# EAGLE library part RPI-CSI (library CM_connectors)
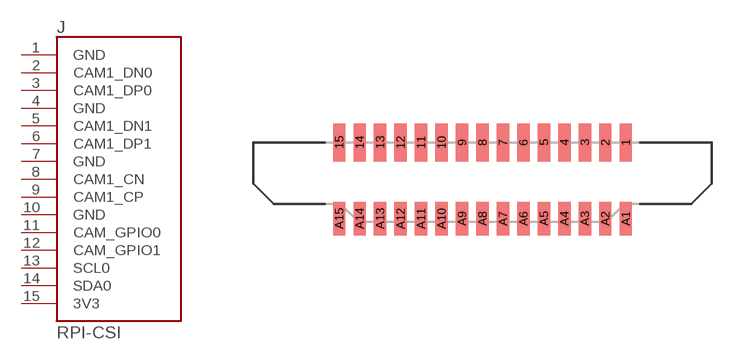
[diagram p1: symbol with the pads of 1-1734248-5; footprint 1-1734248-5]

Designator prefix J

## RPI-CSI  [1-1734248-5]
1  GND1
2  CAM1_DN0
3  CAM1_DP0
4  GND2
5  CAM1_DN1
6  CAM1_DP1
7  GND3
8  CAM1_CN
9  CAM1_CP
10  GND4
11  CAM_GPIO0
12  CAM_GPIO1
13  SCL0
14  SDA0
15  3V3

## Footprint 1-1734248-5 (pad centres in mm)
smd 0.6 x 1.85: 1 7,0; 2 6,0; 3 5,0; 4 4,0; 5 3,0; 6 2,0; 7 1,0; 8 0,0; 9 -1,0; 10 -2,0; 11 -3,0; 12 -4,0; 13 -5,0; 14 -6,0; 15 -7,0
smd 0.6 x 1.65: A1 7,-3.725; A2 6,-3.725; A3 5,-3.725; A4 4,-3.725; A5 3,-3.725; A6 2,-3.725; A7 1,-3.725; A8 0,-3.725; A9 -1,-3.725; A10 -2,-3.725; A11 -3,-3.725; A12 -4,-3.725; A13 -5,-3.725; A14 -6,-3.725; A15 -7,-3.725